# EAGLE library part AS4C8M16D1 (library ICs)
128Mb MOBILE DDR SDRAM
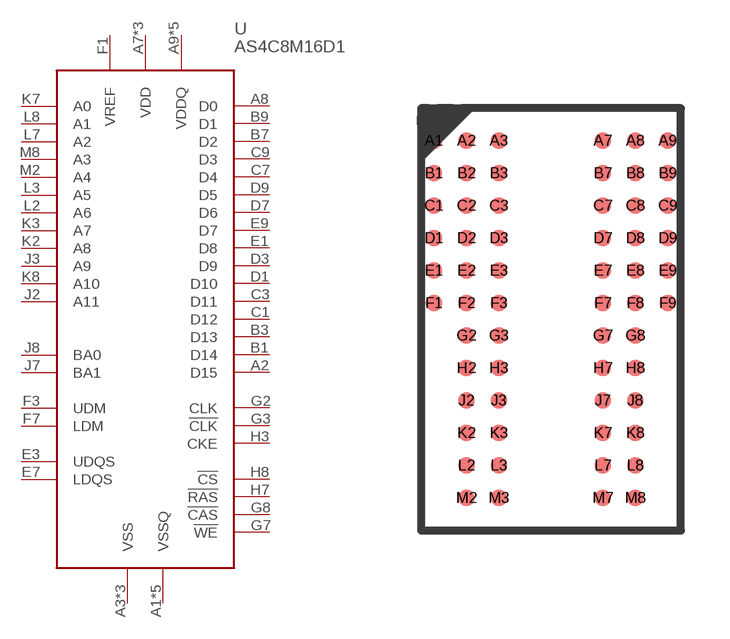
[diagram p95: symbol with the pads of TFBGA60(13X8); footprint TFBGA60(13X8)]

Designator prefix U

## AS4C8M16D1 (DIGIKEY: 1450-1321-ND; PRICE_PER: 2.00; VALUE: AS4C8M16D1)  [TFBGA60(13X8)]
A1  VSSQ
A2  D15
A3  VSS
A7  VDD
A8  D0
A9  VDDQ
B1  D14
B2  VDDQ
B3  D13
B7  D2
B8  VSSQ
B9  D1
C1  D12
C2  VSSQ
C3  D11
C7  D4
C8  VDDQ
C9  D3
D1  D10
D2  VDDQ
D3  D9
D7  D6
D8  VSSQ
D9  D5
E1  D8
E2  VSSQ
E3  UDQS
E7  LDQS
E8  VDDQ
E9  D7
F1  VREF
F2  VSS
F3  UDM
F7  LDM
F8  VDD
G2  CLK
G3  !CLK
G7  !WE
G8  !CAS
H3  CKE
H7  !RAS
H8  !CS
J2  A11
J3  A9
J7  BA1
J8  BA0
K2  A8
K3  A7
K7  A0
K8  A10
L2  A6
L3  A5
L7  A2
L8  A1
M2  A4
M3  VSS
M7  VDD
M8  A3

## Footprint TFBGA60(13X8) (pad centres in mm)
smd 0.5 x 0.5: A1 -3.6,5.5; A2 -2.6,5.5; A3 -1.6,5.5; A7 1.6,5.5; A8 2.6,5.5; A9 3.6,5.5; B1 -3.6,4.5; B2 -2.6,4.5; B3 -1.6,4.5; B7 1.6,4.5; B8 2.6,4.5; B9 3.6,4.5; C1 -3.6,3.5; C2 -2.6,3.5; C3 -1.6,3.5; C7 1.6,3.5; C8 2.6,3.5; C9 3.6,3.5; D1 -3.6,2.5; D2 -2.6,2.5; D3 -1.6,2.5; D7 1.6,2.5; D8 2.6,2.5; D9 3.6,2.5; E1 -3.6,1.5; E2 -2.6,1.5; E3 -1.6,1.5; E7 1.6,1.5; E8 2.6,1.5; E9 3.6,1.5; F1 -3.6,0.5; F2 -2.6,0.5; F3 -1.6,0.5; F7 1.6,0.5; F8 2.6,0.5; F9 3.6,0.5; G2 -2.6,-0.5; G3 -1.6,-0.5; G7 1.6,-0.5; G8 2.6,-0.5; H2 -2.6,-1.5; H3 -1.6,-1.5; H7 1.6,-1.5; H8 2.6,-1.5; J2 -2.6,-2.5; J3 -1.6,-2.5; J7 1.6,-2.5; J8 2.6,-2.5; K2 -2.6,-3.5; K3 -1.6,-3.5; K7 1.6,-3.5; K8 2.6,-3.5; L2 -2.6,-4.5; L3 -1.6,-4.5; L7 1.6,-4.5; L8 2.6,-4.5; M2 -2.6,-5.5; M3 -1.6,-5.5; M7 1.6,-5.5; M8 2.6,-5.5